# Altium schematic symbol library L7805A.SchLib: 1 symbol
Pins are listed as number, name and electrical type; pins without a type are passive.

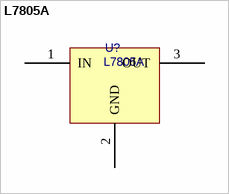
[diagram p0: symbol L7805A]

## L7805A
designator U?
Manufacturer: ST(意法半导体); Manufacturer Part: L7805ABD2T-TR; Supplier: LCSC; Supplier Part: C86206; JLCPCB Part Class: Extended Part; link: https://lcsc.com/eda_search?q=C86206&%26type=1&ref=editor; spicePre: U; spiceSymbolName: L7805ABD2T-TR
pins: 1 IN, 2 GND, 3 OUT